# Altium schematic symbol library HC49US-10P244MHZ-16PF-30-EXT-SMD-H32-TR.SchLib: 2 symbols
Pins are listed as number, name and electrical type; pins without a type are passive.

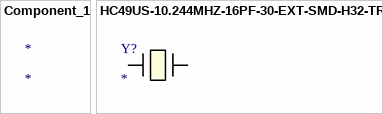
[diagram p0: symbols Component_1 to HC49US-10.244MHZ-16PF-30-EXT-SMD-H32-TR]

## Component_1
designator *

## HC49US-10.244MHZ-16PF-30-EXT-SMD-H32-TR
designator Y?
No Description Available; Mfr_Name: Rami Technology
footprint H32_RAM
pins: 1, 2